# Altium footprint library test_points.PcbLib: 33 footprints (part 3 of 3)
Each footprint in its own frame and in the unit in brackets; x right, y up, seen from the top. Pads: shape width x height; smd on the part's side, far side on the other; paste and mask are expansions set on the pad; w line width, h text height; cw(c..) or ccw(c..) is an arc to the next point about the centre after c.
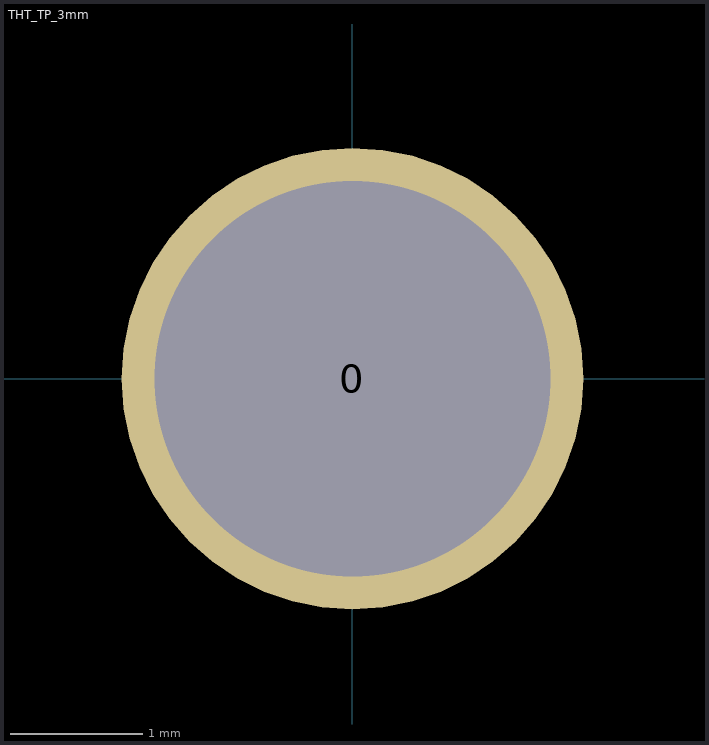
[diagram p2: the footprint, top view; thin cyan lines are the x and y axes]

## THT_TP_3mm [mm]
pads (1):
  round 3.5 hole 3: 0(0,0)
Top Solder:
  region: -2.301,-2.378 2.324,-2.378 2.324,2.422 2.299,2.448 -2.299,2.448
Bottom Solder:
  region: -2.301,-2.378 2.324,-2.378 2.324,2.422 2.299,2.448 -2.299,2.448